# Altium schematic symbol library Connectors.SchLib: 12 symbols
Pins are listed as number, name and electrical type; pins without a type are passive.

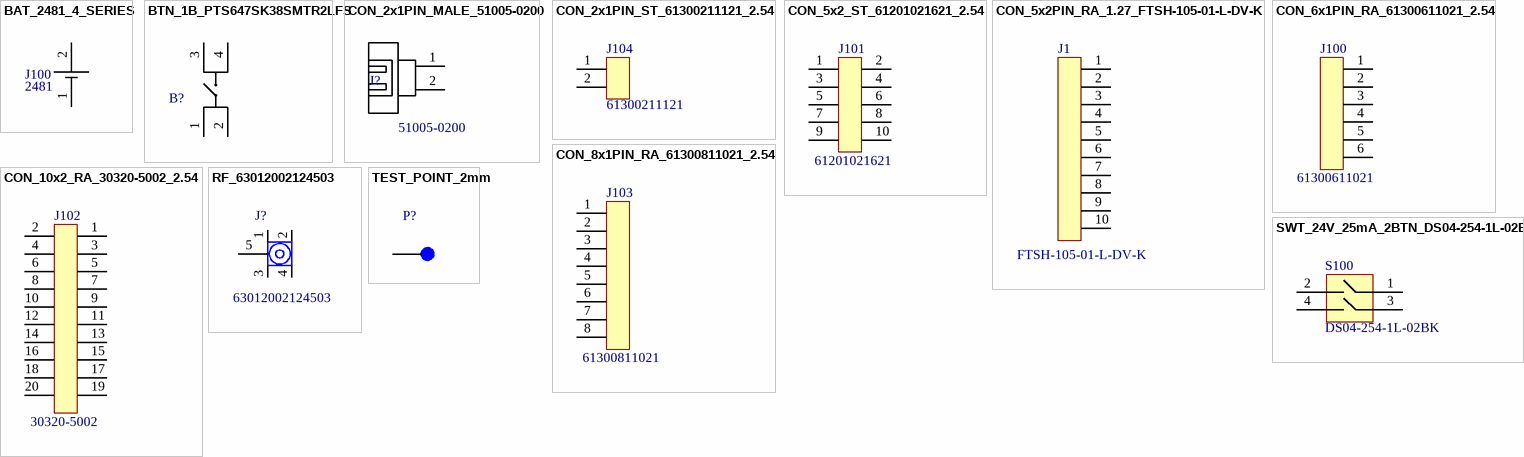
[diagram p0: symbols BAT_2481_4_SERIES to TEST_POINT_2mm]

## BAT_2481_4_SERIES
designator J100  MANUFACTURER REFERENCE: 2481  (hidden comment: BAT_2481_4_SERIES)
BATTERY PACK 2481 4 BAT SERIES; MANUFACTURER: KEYSTONE; ANGLE: STRAIGHT; GENDER: MALE; BATTERY SIZE: AAA; NUMBER OF CELLS: 4; MOUNTING: THT
footprint BAT_2481_4_SERIES
pins: 1 GND, 2 VBATT

## BTN_1B_PTS647SK38SMTR2LFS
designator B?  (value not drawn)
Button PTS647SK38SMTR2LFS; MANUFACTURER: C&K; NUMBER OF BUTTONS: 1; DIRECTION: STRAIGHT; MOUNTING: SMD; MANUFACTURER REFERENCE: PTS647SK38SMTR2LFS
footprint BTN_SMD
pins: 1, 2, 3, 4

## CON_2x1PIN_MALE_51005-0200
designator J?  MANUFACTURER REFERENCE: 51005-0200  (hidden comment: CON_2x1PIN_MALE_51005-0200)
CONNECTOR 2x1PIN MALE 51005-0200; MANUFACTURER: MOLEX; ANGLE: STRAIGHT; ROWS: 2; COLUMNS: 1; MOUNTING: SMD; GENDER: MALE
footprint CON_2x1PIN_MOLEX_51005-0200
pins: 1 GND, 2 VBATT

## CON_2x1PIN_ST_61300211121_2.54
designator J104  MANUFACTURER REFERENCE: 61300211121  (hidden comment: CON_2x1PIN_ST_61300211121_2.54)
CONNECTOR 2x1 PIN ST 61300211121 WE 2.54 PITCH; CURRENT RATING: 3A; ANGLE: STRAIGHT; PITCH: 2.54 mm; GENDER: MALE; ROWS: 1; COLUMNS: 2; MANUFACTURER: WE; MOUNTING: THT
footprint CON_2x1PIN_RA_61300211121
pins: 1, 2

## CON_5x2_ST_61201021621_2.54
designator J101  MANUFACTURER REFERENCE: 61201021621  (hidden comment: CON_5x2_ST_61201021621_2.54)
CONNECTOR 5x2 PIN ST 61201021621 WE 2.54 PITCH; CURRENT RATING: 3A; ANGLE: STRAIGHT; PITCH: 2.54 mm; GENDER: MALE; ROWS: 2; COLUMNS: 5; MANUFACTURER: WE; MOUNTING: THT
footprint CON_5x2PIN_ST_61201021621
pins: 1, 2, 3, 4, 5, 6, 7, 8, 9, 10

## CON_5x2PIN_RA_1.27_FTSH-105-01-L-DV-K
designator J1  MANUFACTURER REFERENCE: FTSH-105-01-L-DV-K  (hidden comment: CON_5x2PIN_RA_1.27_FTSH-105-01-L-DV-K)
CONNECTOR 5x2PIN RA 1.27 PITCH FTSH-105-01-L-DV-K; MANUFACTURER: SAMTEC; CURRENT RATING: 3A; PITCH: 1.27 mm; GENDER: MALE; ROWS: 2; COLUMNS: 5; ROW SPACING: 1.27; MOUNTING: SMD; ANGLE: RA
footprint CON_5x2PIN_RA_FTSH-105-01-L-DV-K
pins: 1, 2, 3, 4, 5, 6, 7, 8, 9, 10

## CON_6x1PIN_RA_61300611021_2.54
designator J100  MANUFACTURER REFERENCE: 61300611021  (hidden comment: CON_6x1PIN_RA_61300611021_2.54)
CONNECTOR 6x1 PIN RA 61300611021 WE 2.54 PITCH; CURRENT RATING: 3A; ANGLE: RIGHT ANGLE; PITCH: 2.54 mm; GENDER: MALE; ROWS: 1; COLUMNS: 6; MANUFACTURER: WE; MOUNTING: THT
footprint CON_6x1PIN_RA_61300611021
pins: 1, 2, 3, 4, 5, 6

## CON_8x1PIN_RA_61300811021_2.54
designator J103, comment MANUFACTURER REFERENCE: 61300811021  (hidden comment: CON_10x1PIN_RA_61300811021_2.54)
CONNECTOR 8x1 PIN RA 61300811021 WE 2.54 PITCH; CURRENT RATING: 3A; ANGLE: RIGHT ANGLE; PITCH: 2.54 mm; GENDER: MALE; ROWS: 1; COLUMNS: 8; MANUFACTURER: WE; MOUNTING: THT
footprint CON_8x1PIN_RA_61300811021
pins: 1, 2, 3, 4, 5, 6, 7, 8

## CON_10x2_RA_30320-5002_2.54
designator J102  MANUFACTURER REFERENCE: 30320-5002  (hidden comment: CON_10x2_RA_30320-5002_2.54)
CONNECTOR 10x2 PIN RA 30320-5002 3M 2.54 PITCH; CURRENT RATING: 1A; ANGLE: RIGHT ANGLE; PITCH: 2.54 mm; GENDER: MALE; ROWS: 2; COLUMNS: 10; MANUFACTURER: 3M; MOUNTING: THT
footprint CON_10x2PIN_RA_30320-5002
pins: 1, 2, 3, 4, 5, 6, 7, 8, 9, 10, 11, 12, 13, 14, 15, 16, 17, 18, 19, 20

## RF_63012002124503
designator J?  MANUFACTURER REFERENCE: 63012002124503  (hidden comment: RF_63012002124503)
RF Connector 63012002124503; MANUFACTURER: WE; PITCH: 2.54 mm; RATED VOLTAGE: 1000V; MOUNTING: THT
footprint RF_63012002124503
pins: 1, 2, 3, 4, 5 2

## SWT_24V_25mA_2BTN_DS04-254-1L-02BK
designator S100, comment MANUFACTURER REFERENCE: DS04-254-1L-02BK  (hidden comment: SWT_24V_25mA_2BTN)
SWITCH 24-50V 25-100mA 2 BUTTONS 2.54 PITCH; MANUFACTURER: CUI; PITCH: 2.54 mm; BUTTONS: 2; RATED VOLTAGE: 24V; MAXIMUM CURRENT: 25mA; MOUNTING: THT
footprint SWT_2BTN_2.54mm_DS04-254-1L-02BK
pins: 1, 2, 3, 4

## TEST_POINT_2mm
designator P?  (value not drawn)
MOUNTING: SMD
footprint TEST_POINT_2mm (TEST POINT_2mm)
pins: 1